# Altium footprint library Connectors.PcbLib: 20 footprints (part 1 of 2)
Each footprint in its own frame and in the unit in brackets; x right, y up, seen from the top. Pads: shape width x height; smd on the part's side, far side on the other; paste and mask are expansions set on the pad; w line width, h text height; cw(c..) or ccw(c..) is an arc to the next point about the centre after c.
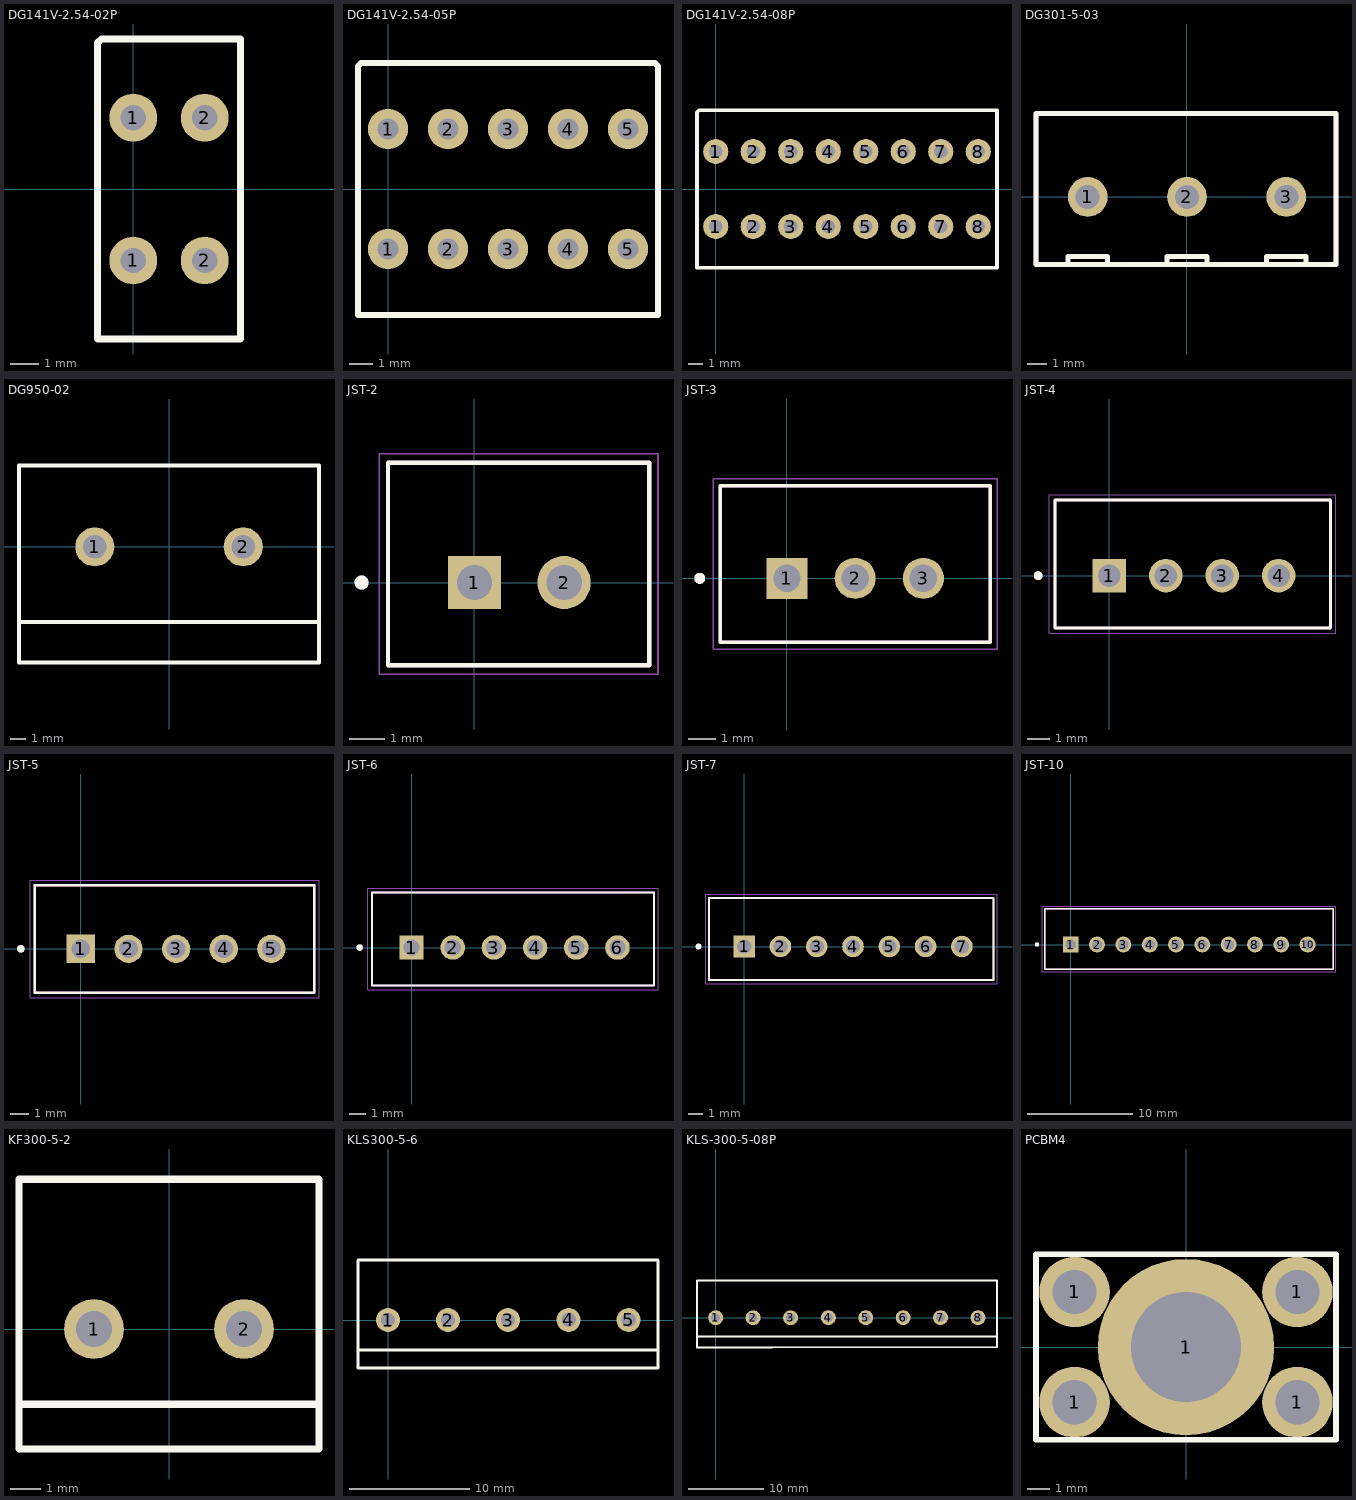
[diagram p0: the footprints below, top view; thin cyan lines are the x and y axes]

## DG141V-2.54-02P [mm]
pads (4):
  round 1.7 hole 0.9: 1(0,-2.54) 1(0,2.54) 2(2.54,-2.54) 2(2.54,2.54)
Top Overlay:
  lines w0.254: -1.27,-5.334 3.81,-5.334 3.81,5.207 3.81,5.34 0,5.34 -1.137,5.34 -1.27,5.207 -1.27,-5.334

## DG141V-2.54-05P [mm]
pads (10):
  round 1.7 hole 0.9: 1(0,-2.54) 1(0,2.54) 2(2.54,-2.54) 2(2.54,2.54) 3(5.08,-2.54) 3(5.08,2.54) 4(7.62,-2.54) 4(7.62,2.54) 5(10.16,-2.54) 5(10.16,2.54)
Top Overlay:
  lines w0.254: -1.27,-5.334 11.43,-5.334 11.43,5.207 11.297,5.34 0,5.34 -1.137,5.34 -1.27,5.207 -1.27,-5.334

## DG141V-2.54-08P [mm]
pads (16):
  round 1.7 hole 0.9: 1(0,-2.54) 1(0,2.54) 2(2.54,-2.54) 2(2.54,2.54) 3(5.08,-2.54) 3(5.08,2.54) 4(7.62,-2.54) 4(7.62,2.54) 5(10.16,-2.54) 5(10.16,2.54) 6(12.7,-2.54) 6(12.7,2.54) 7(15.24,-2.54) 7(15.24,2.54) 8(17.78,-2.54) 8(17.78,2.54)
Top Overlay:
  lines w0.254: -1.27,-5.334 19.05,-5.334 19.05,5.34 0,5.34 -1.137,5.34 -1.27,5.207 -1.27,-5.334

## DG301-5-03 [mm]
pads (3):
  round 2 hole 1.2: 1(-5,0) 2(0,0) 3(5,0)
Top Overlay:
  lines w0.254: -6,-3.4 -6,-3 -4,-3 -4,-3.4 ; -2.6,-3.4 7.5,-3.4 7.5,4.2 -2.6,4.2 ; 2.5,-3.4 -7.6,-3.4 -7.6,4.2 2.5,4.2 ; 4,-3.4 4,-3 6,-3 6,-3.4 ; -1,-3 1,-3 ; -1,-3 -1,-3.4 -1,-3 ; -1,-3 1,-3 ; 1,-3 1,-3.4 1,-3
Top Courtyard:
  lines w0.254: -2.6,-3.4 7.5,-3.4 7.5,4.2 -2.6,4.2 ; 2.5,-3.4 -7.6,-3.4 -7.6,4.2 2.5,4.2
3D body "User Library-DG301-5_0-3P12.STEP": height 10, standoff -4.16, extent -8.1,-3.4 7.5,4.2

## DG950-02 [mm]
pads (2):
  round 2.5 hole 1.5: 1(-4.75,0) 2(4.75,0)
Top Overlay:
  lines w0.254: -9.6,-4.8 9.6,-4.8 ; -9.6,-7.4 -9.6,5.2 9.6,5.2 9.6,-7.4 -9.6,-7.4
3D body "DG950-9.5-02P-14-00AH.STEP": height 21.5, standoff -5, extent -10.083,-7.351 9.517,5.149

## JST-2 [mm]
pads (2):
  rect 1.508x1.508 / inner round 1.508 / far side rect 1.508x1.508 hole 1: 1(0,0)
  round 1.508 hole 1: 2(2.54,0)
Top Overlay:
  circle w0.2: c-3.2,0 r0.1
  lines w0.127: -2.45,-2.35 -2.45,3.4 4.95,3.4 4.95,-2.35 -2.45,-2.35
Mechanical 13:
  circle w0.2: c-3.2,0 r0.1
  lines w0.127: -2.45,-2.35 -2.45,3.4 4.95,3.4 4.95,-2.35 -2.45,-2.35
Mechanical 15:
  lines w0.05: -2.7,-2.6 5.2,-2.6 5.2,3.65 -2.7,3.65 -2.7,-2.6
3D body "step_temp.STEP": height 7, standoff -3.4, extent -2.45,-2.35 4.95,3.4

## JST-3 [mm]
pads (3):
  rect 1.508x1.508 / inner round 1.508 / far side rect 1.508x1.508 hole 1: 1(0,0)
  round 1.508 hole 1: 2(2.5,0) 3(5,0)
Top Overlay:
  circle w0.2: c-3.2,0 r0.1
  lines w0.127: -2.45,-2.35 7.45,-2.35 7.45,3.4 -2.45,3.4 -2.45,-2.35
Mechanical 13:
  circle w0.2: c-3.2,0 r0.1
  lines w0.127: -2.45,-2.35 7.45,-2.35 7.45,3.4 -2.45,3.4 -2.45,-2.35
Mechanical 15:
  lines w0.05: -2.7,-2.6 -2.7,3.65 7.7,3.65 7.7,-2.6 -2.7,-2.6
3D body "step_temp.STEP": height 7, standoff -3.4, extent -2.45,-2.35 7.45,3.4

## JST-4 [mm]
pads (4):
  rect 1.508x1.508 / inner round 1.508 / far side rect 1.508x1.508 hole 1: 1(0,0)
  round 1.508 hole 1: 2(2.54,0) 3(5.08,0) 4(7.62,0)
Top Overlay:
  circle w0.2: c-3.2,0 r0.1
  lines w0.127: -2.45,-2.35 9.95,-2.35 9.95,3.4 -2.45,3.4 -2.45,-2.35
Mechanical 13:
  circle w0.2: c-3.2,0 r0.1
  lines w0.127: -2.45,-2.35 9.95,-2.35 9.95,3.4 -2.45,3.4 -2.45,-2.35
Mechanical 15:
  lines w0.05: -2.7,-2.6 -2.7,3.65 10.2,3.65 10.2,-2.6 -2.7,-2.6
3D body "step_temp.STEP": height 7, standoff -3.4, extent -2.45,-2.35 9.95,3.4

## JST-5 [mm]
pads (5):
  rect 1.508x1.508 hole 1: 1(0,0)
  round 1.508 hole 1: 2(2.54,0) 3(5.08,0) 4(7.62,0) 5(10.16,0)
Top Overlay:
  circle w0.2: c-3.2,0 r0.1
  lines w0.127: -2.45,-2.35 12.45,-2.35 12.45,3.4 -2.45,3.4 -2.45,-2.35
Mechanical 13:
  circle w0.2: c-3.2,0 r0.1
  lines w0.127: -2.45,-2.35 12.45,-2.35 12.45,3.4 -2.45,3.4 -2.45,-2.35
Mechanical 15:
  lines w0.05: -2.7,-2.6 -2.7,3.65 12.7,3.65 12.7,-2.6 -2.7,-2.6
3D body "step_temp.STEP": height 7, standoff -3.4, extent -2.45,-2.35 12.45,3.4

## JST-6 [mm]
pads (6):
  rect 1.508x1.508 hole 1: 1(0,0)
  round 1.508 hole 1: 2(2.54,0) 3(5.08,0) 4(7.62,0) 5(10.16,0) 6(12.7,0)
Top Overlay:
  circle w0.2: c-3.2,0 r0.1
  lines w0.127: -2.45,-2.35 14.95,-2.35 14.95,3.4 -2.45,3.4 -2.45,-2.35
Mechanical 13:
  circle w0.2: c-3.2,0 r0.1
  lines w0.127: -2.45,-2.35 14.95,-2.35 14.95,3.4 -2.45,3.4 -2.45,-2.35
Mechanical 15:
  lines w0.05: -2.7,-2.6 -2.7,3.65 15.2,3.65 15.2,-2.6 -2.7,-2.6
3D body "step_temp.STEP": height 7, standoff -3.4, extent -2.45,-2.35 14.95,3.4

## JST-7 [mm]
pads (7):
  rect 1.508x1.508 / inner round 1.508 / far side rect 1.508x1.508 hole 1: 1(0,0)
  round 1.508 hole 1: 2(2.54,0) 3(5.08,0) 4(7.62,0) 5(10.16,0) 6(12.7,0) 7(15.24,0)
Top Overlay:
  circle w0.2: c-3.2,0 r0.1
  lines w0.127: -2.45,-2.35 17.45,-2.35 17.45,3.4 -2.45,3.4 -2.45,-2.35
Mechanical 13:
  circle w0.2: c-3.2,0 r0.1
  lines w0.127: -2.45,-2.35 17.45,-2.35 17.45,3.4 -2.45,3.4 -2.45,-2.35
Mechanical 15:
  lines w0.05: -2.7,-2.6 -2.7,3.65 17.7,3.65 17.7,-2.6 -2.7,-2.6
3D body "step_temp.STEP": height 7, standoff -3.4, extent -2.45,-2.35 17.45,3.4

## JST-10 [mm]
pads (10):
  rect 1.508x1.508 hole 1: 1(0,0)
  round 1.508 hole 1: 2(2.5,0) 3(5,0) 4(7.5,0) 5(10,0) 6(12.5,0) 7(15,0) 8(17.5,0) 9(20,0) 10(22.5,0)
Top Overlay:
  circle w0.2: c-3.2,0 r0.1
  lines w0.127: -2.45,-2.35 24.95,-2.35 24.95,3.4 -2.45,3.4 -2.45,-2.35
Mechanical 13:
  circle w0.2: c-3.2,0 r0.1
  lines w0.127: -2.45,-2.35 24.95,-2.35 24.95,3.4 -2.45,3.4 -2.45,-2.35
Mechanical 15:
  lines w0.05: -2.7,-2.6 -2.7,3.65 25.2,3.65 25.2,-2.6 -2.7,-2.6
3D body "step_temp.STEP": height 7, standoff -3.4, extent -2.45,-2.35 24.95,3.4

## KF300-5-2 [mm]
pads (2):
  round 2 hole 1.2 unplated: 1(-2.5,0) 2(2.5,0)
Top Overlay:
  lines w0.25: -5,-2.5 5,-2.5 ; -5,-4 -5,5 -2.5,5 2.5,5 5,5 5,-4 -2.5,-4 -5,-4

## KLS300-5-6 [mm]
pads (5):
  round 2 hole 1.2 unplated: 1(0,0) 2(5,0) 3(10,0) 4(15.053,0.006) 5(20.053,0.006)
Top Overlay:
  lines w0.25: -2.5,-2.5 7.5,-2.5 22.5,-2.5 ; -2.5,-4 -2.5,5 0,5 5,5 7.5,5 22.5,5 22.5,-4 7.5,-4 0,-4 -2.5,-4

## KLS-300-5-08P [mm]
pads (8):
  round 2 hole 1.2 unplated: 1(0,0) 2(5,0) 3(10,0) 4(15.053,0.006) 5(20.053,0.006) 6(25.053,0.006) 7(30.053,0.006) 8(35.053,0.006)
Top Overlay:
  lines w0.25: -2.5,-2.5 7.5,-2.5 37.465,-2.5 ; -2.5,-4 0,-4 7.5,-4 37.592,-3.905 37.592,5 7.5,5 5,5 0,5 -2.5,5 -2.5,-4

## PCBM4 [mm]
pads (5):
  round 3.2 hole 2: 1(-5.05,-2.5) 1(-5.05,2.5) 1(5.05,-2.5) 1(5.05,2.5)
  round 8 hole 5: 1(0,0)
Top Layer:
  region: -5.3,7.2
  region: -5.3,7.2
Top Overlay:
  lines w0.254: -6.8,-4.2 -6.8,4.2 5.1,4.2 6.8,4.2 6.8,-4.2 -6.8,-4.2